# Altium footprint library HTO220.PcbLib: 1 footprints
Each footprint in its own frame and in the unit in brackets; x right, y up, seen from the top. Pads: shape width x height; smd on the part's side, far side on the other; paste and mask are expansions set on the pad; w line width, h text height; cw(c..) or ccw(c..) is an arc to the next point about the centre after c.
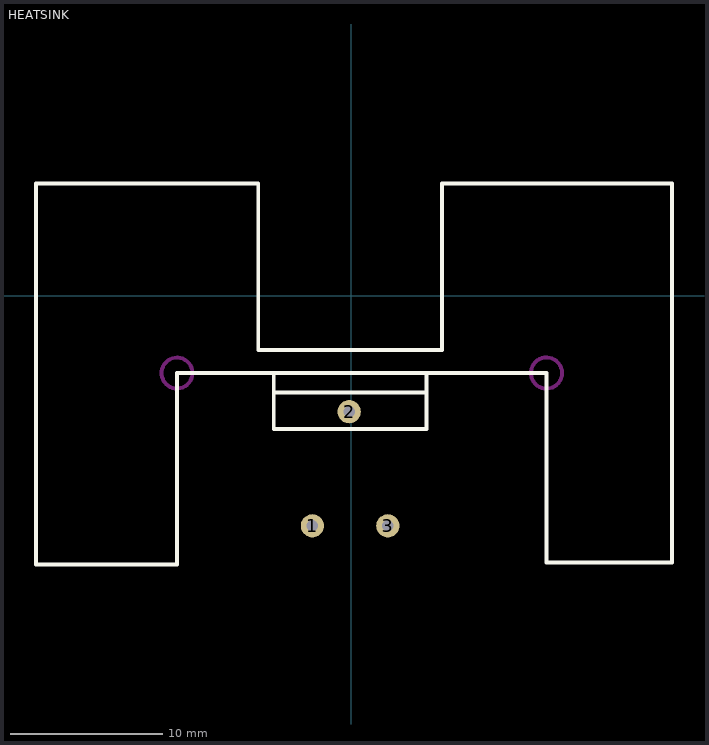
[diagram p0: the footprint, top view; thin cyan lines are the x and y axes]

## HEATSINK [mil]
pads (3):
  round 60 hole 30: 1(-100,-595) 2(-5,-300) 3(95,-595)
Top Overlay:
  lines w10: -200,-250 190,-250 ; -200,-200 -200,-345 195,-345 195,-310 ; 195,-325 195,-205 ; -815,-695 -450,-695 -450,-200 505,-200 505,-690 830,-690 830,290 235,290 235,-140 -240,-140 -240,290 -815,290 -815,-695
Keep-Out Layer:
  circle w10: c-450,-200 r40
  circle w10: c505,-200 r40.31